# Altium schematic symbol library SamacSys.SchLib: 8 symbols
Pins are listed as number, name and electrical type; pins without a type are passive.

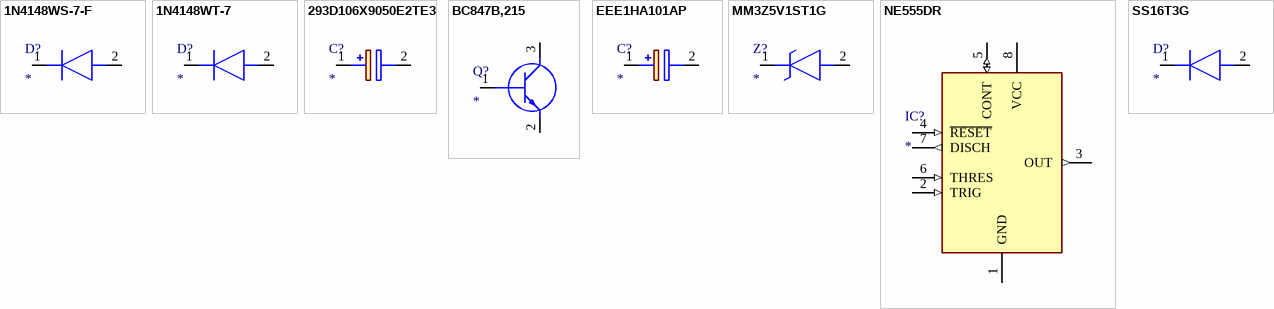
[diagram p0: symbols 1N4148WS-7-F to SS16T3G]

## 1N4148WS-7-F
designator D?
Diode; Manufacturer_Name: Diodes Inc.; Manufacturer_Part_Number: 1N4148WS-7-F; Datasheet Link: https://componentsearchengine.com/Datasheets/2/1N4148WS-7-F.pdf; Height: 1.2mm; Mouser Part Number: 621-1N4148WS-F; Mouser Price/Stock: https://www.mouser.co.uk/ProductDetail/Diodes-Incorporated/1N4148WS-7-F?qs=4drIV0IxA0r8aNy7%2Fu4kVw%3D%3D; Arrow Part Number: 1N4148WS-7-F; Arrow Price/Stock: https://www.arrow.com/en/products/1n4148ws-7-f/diodes-incorporated?region=nac
footprint SOD2513X120N
pins: 1 K, 2 A

## 1N4148WT-7
designator D?
Diode; Manufacturer_Name: Diodes Inc.; Manufacturer_Part_Number: 1N4148WT-7; Datasheet Link: https://datasheet.datasheetarchive.com/originals/distributors/Datasheets-305/73268.pdf; Height: 0mm; Mouser Part Number: 621-1N4148WT; Mouser Price/Stock: https://www.mouser.co.uk/ProductDetail/Diodes-Incorporated/1N4148WT-7?qs=FITO%2F%2FQgYDlMYETivVNccQ%3D%3D; Arrow Part Number: 1N4148WT-7; Arrow Price/Stock: https://www.arrow.com/en/products/1n4148wt-7/diodes-incorporated?region=nac
footprint 1N4148WT7
pins: 1 K, 2 A

## 293D106X9050E2TE3
designator C?
Capacitor Polarised; Manufacturer_Name: Vishay; Manufacturer_Part_Number: 293D106X9050E2TE3; Datasheet Link: http://www.vishay.com/doc?40002; Height: 4.3mm; Mouser Part Number: 74-293D106X9050E2TE3; Mouser Price/Stock: https://www.mouser.com/Search/Refine.aspx?Keyword=74-293D106X9050E2TE3; Arrow Part Number: 293D106X9050E2TE3; Arrow Price/Stock: https://www.arrow.com/en/products/293d106x9050e2te3/vishay
footprint CAPPM7343X430N
pins: 1 +, 2 -

## BC847B,215
designator Q?
Transistor BJT NPN; Manufacturer_Name: Nexperia; Manufacturer_Part_Number: BC847B,215; Description: BC847 series - 45 V; Datasheet Link: https://assets.nexperia.com/documents/data-sheet/BC847_SER.pdf; Height: 1.1mm; Mouser Part Number: 771-BC847B-T/R; Mouser Price/Stock: https://www.mouser.co.uk/ProductDetail/Nexperia/BC847B215?qs=me8TqzrmIYXXIdUoxWnHgw%3D%3D; Arrow Part Number: BC847B,215; Arrow Price/Stock: https://www.arrow.com/en/products/bc847b215/nexperia?region=nac
footprint BC847B215
pins: 1 B (io), 2 E (io), 3 C (io)

## EEE1HA101AP
designator C?
Capacitor Polarised; Manufacturer_Name: Panasonic; Manufacturer_Part_Number: EEE1HA101AP; Description: PANASONIC - EEE1HA101AP - SMD Aluminium Electrolytic Capacitor; Datasheet Link: http://industrial.panasonic.com/cdbs/www-data/pdf/RDE0000/ABA0000C1142.pdf
footprint EEEFK1V331P
pins: 1 +, 2 -

## MM3Z5V1ST1G
designator Z?
Zener Diode; Manufacturer_Name: onsemi; Manufacturer_Part_Number: MM3Z5V1ST1G; Datasheet Link: http://www.onsemi.com/pub/Collateral/MM3Z2V4ST1-D.PDF; Height: 1.1mm; Mouser Part Number: 863-MM3Z5V1ST1G; Mouser Price/Stock: https://www.mouser.co.uk/ProductDetail/onsemi/MM3Z5V1ST1G?qs=HVbQlW5zcXXFXX%2FQxsNWFg%3D%3D; Arrow Part Number: MM3Z5V1ST1G; Arrow Price/Stock: https://www.arrow.com/en/products/mm3z5v1st1g/on-semiconductor?region=nac
footprint SOD2512X110N
pins: 1 K, 2 A

## NE555DR
designator IC?
Integrated Circuit; Manufacturer_Name: Texas Instruments; Manufacturer_Part_Number: NE555DR; Datasheet Link: http://www.ti.com/lit/ds/symlink/ne555.pdf; Height: 1.75mm; Mouser Part Number: 595-NE555DR; Mouser Price/Stock: https://www.mouser.com/Search/Refine.aspx?Keyword=595-NE555DR; RS Part Number: 1218414; RS Price/Stock: http://uk.rs-online.com/web/p/products/1218414
footprint SOIC127P600X175-8N
pins: 1 GND (power), 2 TRIG (in), 3 OUT (out), 4 ~{RESET} (in), 5 CONT (io), 6 THRES (in), 7 DISCH (out), 8 VCC (power)

## SS16T3G
designator D?
Diode; Manufacturer_Name: onsemi; Manufacturer_Part_Number: SS16T3G; Datasheet Link: http://www.onsemi.com/pub/Collateral/SS16-D.PDF; Height: 2.2mm; Mouser Part Number: 863-SS16T3G; Mouser Price/Stock: https://www.mouser.co.uk/ProductDetail/onsemi/SS16T3G?qs=xZq1yRCsb1c8788h1nFazA%3D%3D; Arrow Part Number: SS16T3G; Arrow Price/Stock: https://www.arrow.com/en/products/ss16t3g/on-semiconductor?region=nac
footprint DIOM5226X220N
pins: 1 K, 2 A